# EAGLE library part HDMI-MICRO (library SHC)
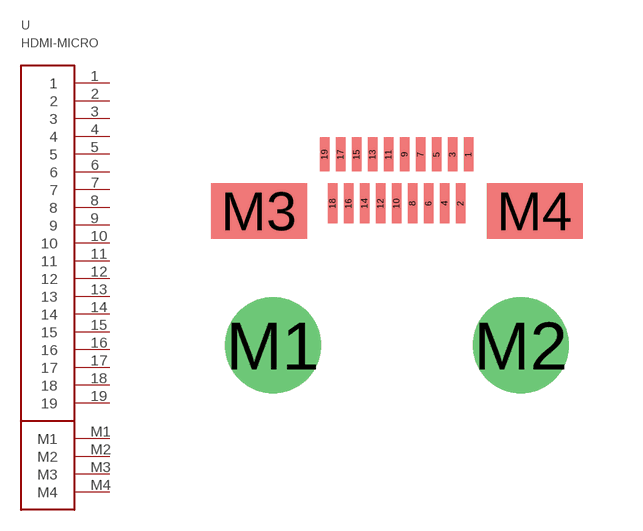
[diagram p35: symbol with the pads of HDMI-MICRO; footprint HDMI-MICRO]

Designator prefix -

## HDMI-MICRO  [HDMI-MICRO]
1  1
2  2
3  3
4  4
5  5
6  6
7  7
8  8
9  9
10  10
11  11
12  12
13  13
14  14
15  15
16  16
17  17
18  18
19  19
M1  M1
M2  M2
M3  M3
M4  M4

## Footprint HDMI-MICRO (pad centres in mm)
smd 0.23 x 0.85: 1 1.8,6.475; 3 1.4,6.475; 5 1,6.475; 7 0.6,6.475; 9 0.2,6.475; 11 -0.2,6.475; 13 -0.6,6.475; 15 -1,6.475; 17 -1.4,6.475; 19 -1.8,6.475
smd 0.23 x 1: 2 1.6,5.25; 4 1.2,5.25; 6 0.8,5.25; 8 0.4,5.25; 10 0,5.25; 12 -0.4,5.25; 14 -0.8,5.25; 16 -1.2,5.25; 18 -1.6,5.25
drill 1.6: M1 -3.1,1.7; M2 3.1,1.7
smd 2.4 x 1.38: M3 -3.45,5.06; M4 3.45,5.06